# Altium schematic symbol library 2020-02-11_03-36-15.SchLib: 2 symbols
Pins are listed as number, name and electrical type; pins without a type are passive.

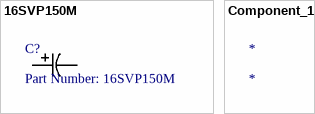
[diagram p0: symbols 16SVP150M to Component_1]

## 16SVP150M
designator C?, comment Part Number: 16SVP150M
No Description Available; Vendor: Panasonic; Built_By: EMA_UL_Team; Type: DEV; Manufacturer_Part_Number: 16SVP150M; Copyright: Copyright (C) 2018 Accelerated Designs. All rights reserved; RefDes: RefDes; Value: Value
footprint PCAP_SVP_F8
pins: 1, 2

## Component_1
designator *